# Altium schematic symbol library Discrete.SchLib: 46 symbols
Pins are listed as number, name and electrical type; pins without a type are passive.

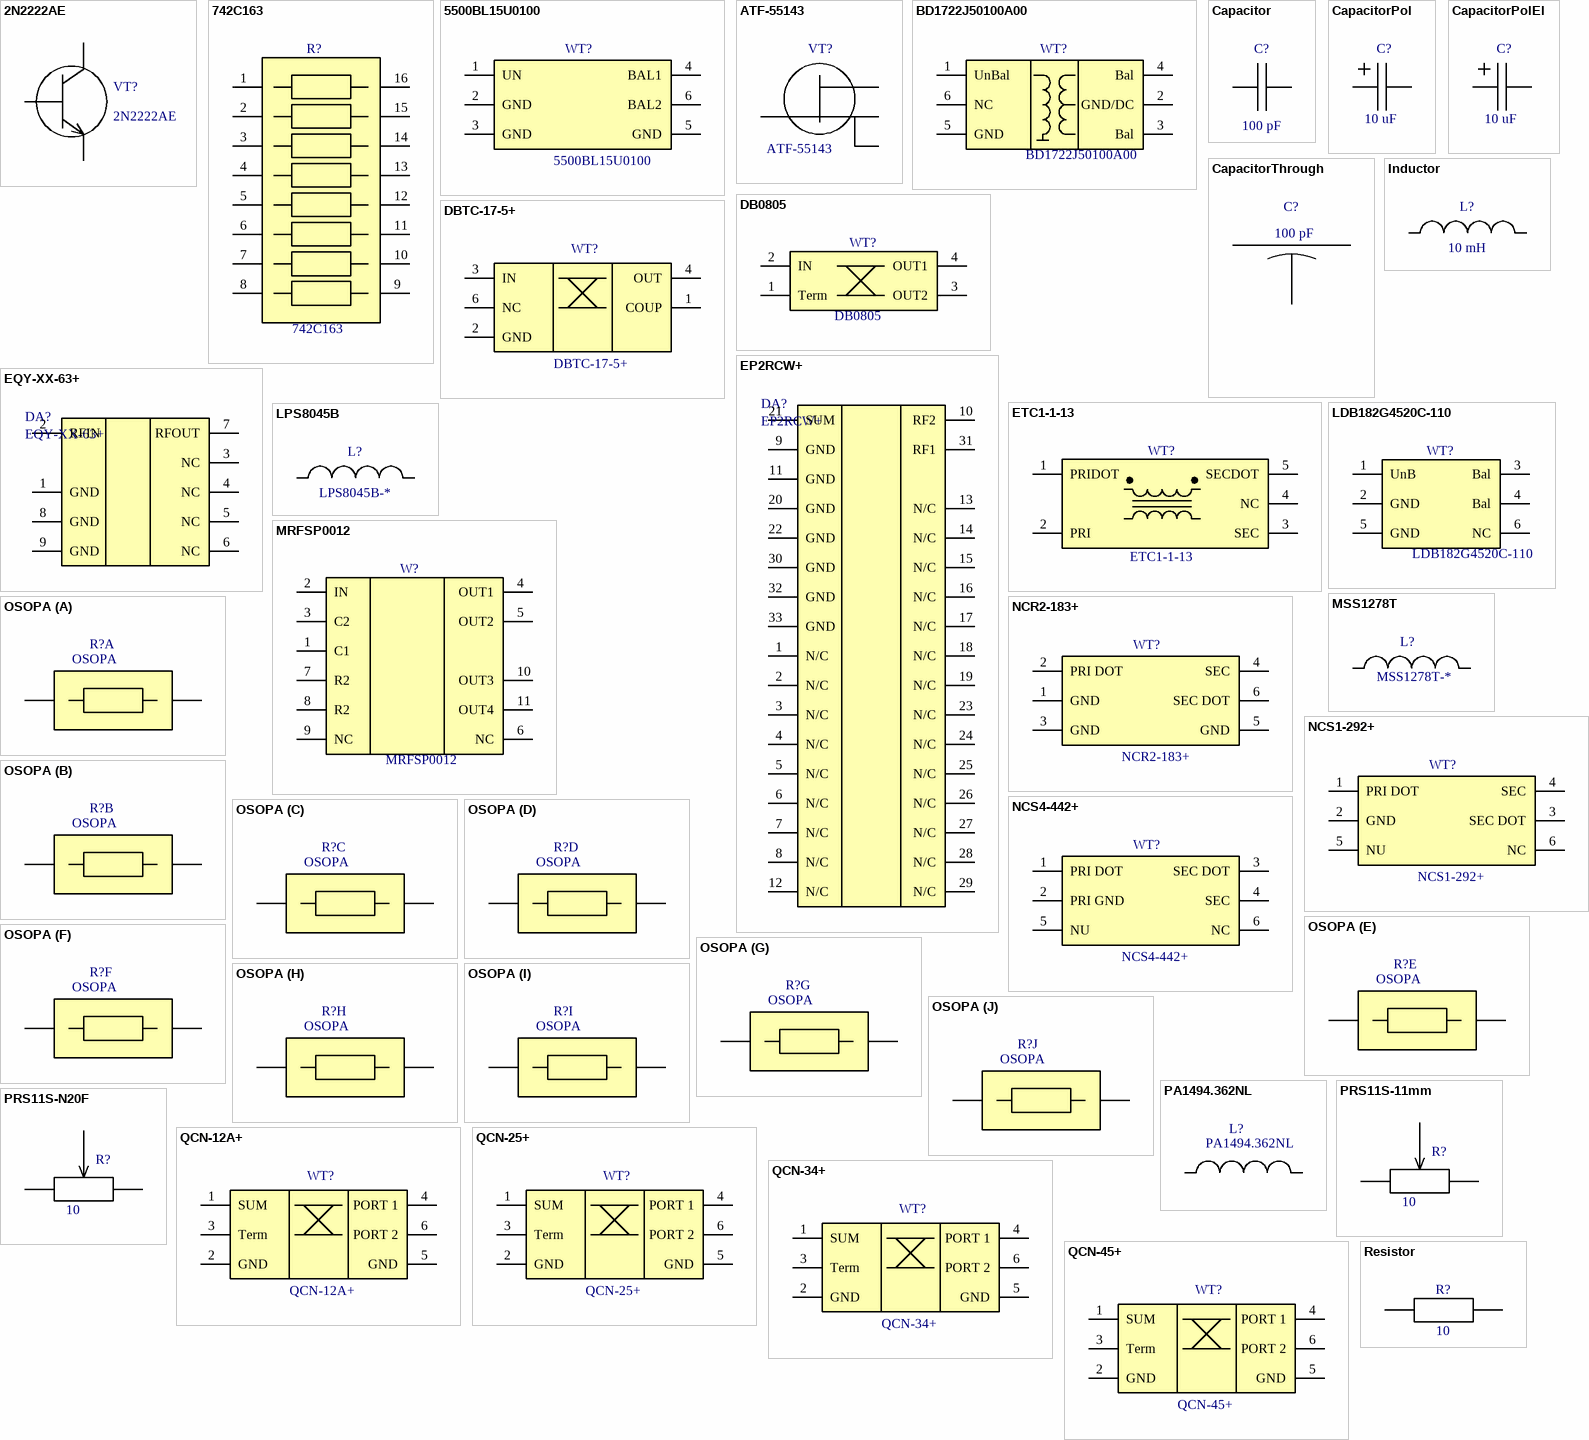
[diagram p0: symbols 2N2222AE to Resistor]

## 2N2222AE
designator VT?
NPN Transistor, General Purpose Transistor; PartNumber: 2N2222AE; Manufacturer: *
footprint TRXSOFL3P50_160X160X80L40X26 (Transistor, Small Outline Flat Lead (SOFL), 0.50 mm pitch; 3 pin, 1.60 mm L X 0.825 mm W X 0.80 mm H body)
pins: 1 B "base", 2 E "emitter", 3 C "collector"

## 742C163
designator R?
Chip Resistor Array 0603 X 8 Isolated; PartNumber: 742C163; Value: *; Tolerance: *; Power: *; DCV: *; Manufacturer: *
footprint RESCAV16P80_640X160X70L30X50N (Chip Array, 2 Side Concave, 0.80 mm pitch; 16 pin, 6.40 mm L X 1.60 mm W X 0.70 mm H body)
pins: 1, 2, 3, 4, 5, 6, 7, 8, 9, 10, 11, 12, 13, 14, 15, 16

## 5500BL15U0100
designator WT?
UWB Balun (3 - 8 GHz); PartNumber: 5500BL15U0100; Manufacturer: *
footprint ICCAF6P65_200X125X105L27X30N (Chip Array, 2 Side Flat, 0.65 mm pitch; 6 pin, 2.00 mm L X 1.25 mm W X 1.05 mm H body)
pins: 1 UN, 2 GND, 3 GND, 4 BAL1, 5 GND, 6 BAL2

## ATF-55143
designator VT?
Low Noise PHEMT w/t dbl source; PartNumber: ATF-55143; Manufacturer: *
footprint SOT343-4RP130_210X120L28X27N (Small Outline Transistor (SOT143), 1.30 mm pitch; 4 pin, 2.05 mm L X 1.25 mm W X 1.20 mm H body (w/reversed pins))
pins: 1 S1, 2 D, 3 S2, 4 G

## BD1722J50100A00
designator WT?
Ultra Low Profile 0805 Balun 50 to 100 Balanced; PartNumber: BD1722J50100A00; Manufacturer: *
footprint PSON6P65_200X125X75L22X30N (Pullback Small Outline No-Lead (PSON), 0.65 mm pitch; 6 pin, 2.00 mm L X 1.25 mm W X 0.75 mm H body)
pins: 1 UnBal, 2 GND/DC, 3 Bal, 4 Bal, 5 GND, 6 NC

## Capacitor
designator C?, comment 100 pF
Capacitor, generic; Value: 100 pF; PartNumber: *; Tolerance: *; VDC: *; Dielectric: *; Manufacturer: *; Package: 0402
footprint CAPC100X50X55L20N (Capacitor, Chip; 1.00 mm L X 0.50 mm W X 0.55 mm H body)
footprint CAPC160X80X90L30N (Capacitor, Chip; 1.60 mm L X 0.80 mm W X 0.90 mm H body)
footprint CAPC200X125X95L50N (Capacitor, Chip; 2.00 mm L X 1.25 mm W X 0.95 mm H body)
footprint CAPC320X160X180L20N (Capacitor, Chip; 3.20 mm L X 1.60 mm W X 1.80 mm H body)
footprint CAPC320X250X280L20N (Capacitor, Chip; 3.20 mm L X 2.50 mm W X 2.80 mm H body)
footprint CAPC450X320X360L20N (Capacitor, Chip; 4.50 mm L X 3.20 mm W X 3.60 mm H body)
footprint CAPC570X500X310L20N (Capacitor, Chip; 5.70 mm L X 5.00 mm W X 3.10 mm H body)
pins: 1, 2

## CapacitorPol
designator C?, comment 10 uF
Capacitor, Pol, generic; Value: 10 uF; PartNumber: *; Tolerance: *; VDC: *; Manufacturer: *; Package: 1206; ESR: *
footprint CAPPM320X160X180L80X120N (Capacitor, Polarized, Molded Body; 2.60 mm L X 1.60 mm W X 1.80 mm H body)
footprint CAPPM350X280X210L80X220N (Capacitor, Polarized, Molded Body; 2.90 mm L X 2.80 mm W X 2.10 mm H body)
pins: 1, 2

## CapacitorPolEl
designator C?, comment 10 uF
Capacitor, Pol, El, generic; Value: 10 uF; PartNumber: *; Tolerance: *; VDC: *; Manufacturer: *; Package: *
footprint CAPAE430X600D510L205X65N (Capacitor, Aluminum Electrolytic; 4.30 mm L X 4.30 mm W X 6.00 mm H body)
footprint CAPAE530X600D590L220X65N (Capacitor, Aluminum Electrolytic; 5.30 mm L X 5.30 mm W X 6.00 mm H body)
footprint CAPAE840X680D840L305X65N (Capacitor, Aluminum Electrolytic; 8.40 mm L X 8.40 mm W X 6.80 mm H body)
footprint CAPAE1030X1050D1200L350X90N (Capacitor, Aluminum Electrolytic; 10.30 mm L X 10.30 mm W X 10.50 mm H body)
pins: 1, 2

## CapacitorThrough
designator C?, comment 100 pF
Capacitor, through, 3-terminal; Value: 100 pF; PartNumber: *; Tolerance: *; VDC: *; Dielectric: *; Manufacturer: *; Package: 0402
footprint CAPCAF4P0_100X50X50L15X35N (Chip Array, 4 Side Flat, 0.00 mm pitch; rect., 1 pin X 1 pin, 1.00 mm L X 0.50 mm W X 0.50 mm H body)
footprint CAPCAF4P0_120X90X80L20X50N (Chip Array, 4 Side Flat, 0.00 mm pitch; rect., 1 pin X 1 pin, 1.20 mm L X 0.90 mm W X 0.80 mm H body)
footprint CAPCAF4P0_160X80X70L20X40N (Chip Array, 4 Side Flat, 0.00 mm pitch; rect., 1 pin X 1 pin, 1.60 mm L X 0.80 mm W X 0.70 mm H body)
footprint CAPCAF4P0_200X125X95L25X60N (Chip Array, 4 Side Flat, 0.00 mm pitch; rect., 1 pin X 1 pin, 2.00 mm L X 1.25 mm W X 0.95 mm H body)
footprint CAPCAF4P0_320X160X150L30X110N (Chip Array, 4 Side Flat, 0.00 mm pitch; rect., 1 pin X 1 pin, 3.20 mm L X 1.60 mm W X 1.50 mm H body)
footprint CAPCAF4P0_450X160X120L35X150N (Chip Array, 4 Side Flat, 0.00 mm pitch; rect., 1 pin X 1 pin, 4.50 mm L X 1.60 mm W X 1.20 mm H body)
pins: 1, 2, 3

## DB0805
designator WT?
Thin-Film Directional Coupler 3dB 90°; PartNumber: DB0805; Manufacturer: *
footprint AVXRF DB0805 (AVX RF case DB0805)
pins: 1 Term, 2 IN, 3 OUT2, 4 OUT1

## DBTC-17-5+
designator WT?
Directional Coupler 50Ω, 17dB coupling, 50 to 2000 MHz; PartNumber: DBTC-17-5+; Manufacturer: *
footprint AT790-1 (Mini-Circuirts case AT790-1)
pins: 1 COUP, 2 GND, 3 IN, 4 OUT, 6 NC

## EP2RCW+
designator DA?
2 Ways MMIC Power Splitter, DC - 8000 MHz, 50Ω; Manufacturer: Mini-Circuits; PartNumber: EP2RCW+; ComponentLink1Description: Mini-Circuits page; ComponentLink1URL: https://www.minicircuits.com/WebStore/dashboard.html?model=EP2RCW%2B
footprint QFN33P50_500X500X100L40X24T380N (Quad Flat No-Lead (QFN with Tab), 0.50 mm pitch; square, 8 pin X 8 pin, 5.00 mm L X 5.00 mm W X 1.00 mm H body)
pins: 1 N/C, 2 N/C, 3 N/C, 4 N/C, 5 N/C, 6 N/C, 7 N/C, 8 N/C, 9 GND, 10 RF2, 11 GND, 12 N/C, 13 N/C, 14 N/C, 15 N/C, 16 N/C, 17 N/C, 18 N/C, 19 N/C, 20 GND, 21 SUM, 22 GND, 23 N/C, 24 N/C, 25 N/C, 26 N/C, 27 N/C, 28 N/C, 29 N/C, 30 GND, 31 RF1, 32 GND, 33 GND

## EQY-XX-63+
designator DA?
Gain Equalizers, 50Ω, DC to 6 GHz, Slope 0,1,2,3,4,5,6,8&10 dB; Manufactorer: Mini-Circuits; PartNumber: EQY-XX-63+; ComponentLink1Description: Mini-Circuits equalizers page; ComponentLink1URL: https://www.minicircuits.com/WebStore/equalizers.html#
footprint SON9P50_200X200X100L35X23T120X60N (Small Outline No-Lead (SON with Tab), 0.50 mm pitch; 8 pin, 2.00 mm L X 2.00 mm W X 1.00 mm H body)
pins: 1 GND, 2 RFIN, 3 NC, 4 NC, 5 NC, 6 NC, 7 RFOUT, 8 GND, 9 GND

## ETC1-1-13
designator WT?
E-Series Transformer, RF 1:1 Transmission Line 4.5 -3000 MHz; Manufacturer: MACOM; PartNumber: ETC1-1-13; ComponentLink1Description: Product Page; ComponentLink1URL: https://www.macom.com/products/product-detail/ETC1-1-13
footprint ETC1-1-13 (MACOM ETC1-1-13)
pins: 1 PRIDOT, 2 PRI, 3 SEC, 4 NC, 5 SECDOT

## Inductor
designator L?, comment 10 mH
Inductor, generic; Value: 10 mH; PartNumber: *; Tolerance: *; DCR: *; IRMS: *; ISAT: *; SRF: *; Q: *; Manufacturer: *; Package: 0603
footprint INDC160X80X100L30N (Inductor, Chip; 1.60 mm L X 0.80 mm W X 1.00 mm H body)
footprint INDC200X120X140L50N (Inductor, Chip; 2.00 mm L X 1.20 mm W X 1.40 mm H body)
footprint INDC320X160X130L50N (Inductor, Chip; 3.20 mm L X 1.60 mm W X 1.30 mm H body)
footprint INDC100X50X55L20N (Inductor, Chip; 1.00 mm L X 0.50 mm W X 0.55 mm H body)
pins: 1, 2

## LDB182G4520C-110
designator WT?
Chip Multilayer Hybrid Balun 2450.0 ±50.0MHz 50-200 Ohm; PartNumber: LDB182G4520C-110; Manufacturer: *
footprint ICCAF6P50_160X80X70L15X20N (Chip Array, 2 Side Flat, 0.50 mm pitch; 6 pin, 1.60 mm L X 0.80 mm W X 0.70 mm H body)
pins: 1 UnB, 2 GND, 3 Bal, 4 Bal, 5 GND, 6 NC

## LPS8045B
designator L?, comment LPS8045B-*
Shielded Power Inductor; Value: 10 uH; PartNumber: LPS8045B-*; DCR: *; SRF: *; ISAT: *
footprint COILCRAFT_LPS8045B (Coilcraft LPS8045B)
pins: 1, 2

## MRFSP0012
designator W?
4-Way Splitter 5 to 1002 MHz; PartNumber: MRFSP0012; Manufacturer: *
footprint MRFSP0012 (MRFSP0012 Packadge S25)
pins: 1 C1, 2 IN, 3 C2, 4 OUT1, 5 OUT2, 6 NC, 7 R2, 8 R2, 9 NC, 10 OUT3, 11 OUT4

## MSS1278T
designator L?, comment MSS1278T-*
Colicraft SMT Power Inductors; PartNumber: MSS1278T-*; Value: *; DCR: *; SRF: *; ISAT: *
footprint MSS1278T (Coilcraft MSS1278T Series)
pins: 1, 2

## NCR2-183+
designator WT?
RF Transformer; PartNumber: NCR2-183+; Manufacturer: *
footprint NF1846-1 (Mini-Circuits case NF1846-1)
pins: 1 GND, 2 PRI DOT, 3 GND, 4 SEC, 5 GND, 6 SEC DOT

## NCS1-292+
designator WT?
RF Transformer; PartNumber: NCS1-292+; Manufacturer: *
footprint GE0805C-1 (Mini-Circuits case GE0805C-1)
pins: 1 PRI DOT, 2 GND, 3 SEC DOT, 4 SEC, 5 NU, 6 NC

## NCS4-442+
designator WT?
RF Transformer 50Ω 3300 to 4200 MHz 1:4 Ratio; PartNumber: NCS4-442+; Manufacturer: *
footprint GE0805C-1 (Mini-Circuits case GE0805C-1)
pins: 1 PRI DOT, 2 PRI GND, 3 SEC DOT, 4 SEC, 5 NU, 6 NC

## OSOPA
designator R?
Dual-In-Line Thin Film Resistor,  Surface Mount Network, Isolated; PartNumber: OSOPA; Value: *; Tolerance: *; Power: *; DCV: *; Manufacturer: *
footprint SOP20P63_866X602X173L64X25N (Small Outline Pkg (SOP), 0.635 mm pitch; 20 pin, 8.66 mm L X 3.91 mm W X 1.73 mm H body)
part A pins: 1, 20
part B pins: 2, 19
part C pins: 3, 18
part D pins: 4, 17
part E pins: 5, 16
part F pins: 6, 15
part G pins: 7, 14
part H pins: 8, 13
part I pins: 9, 12
part J pins: 10, 11

## PA1494.362NL
designator L?
SMT POWER INDUCTOR Planar - PA1X9XNL Series; Value: 3.3uH; PartNumber: PA1494.362NL; Tolerance: *; DCR: *; IRMS: *; ISAT: *; SRF: *; Q: *; Manufacturer: *
footprint PA1494 (Pulse Planar inductor)
pins: 1, 2

## PRS11S-11mm
designator R?, comment 10
11 mm SMD Potentiometer; PartNumber: PRS11S-*; Value: 10; Manufacturer: *
footprint PRS11S-11mm (Bourns 11 mm SMD Potentiometer with Mounting Holes)
pins: 1, 2, 3

## PRS11S-N20F
designator R?, comment 10
PRS11S - 11 mm SMD Potentiometer; PartNumber: PRS11S-N20F; Value: 10; Manufacturer: *
footprint PRS11S (PRS11S - 11 mm SMD Potentiometer)
pins: 1, 2, 3

## QCN-12A+
designator WT?
Power Splitter/Combiner; PartNumber: QCN-12A+; Manufacturer: *
footprint FV1206-1 (Mini-Circuits case FV1206-1)
pins: 1 SUM, 2 GND, 3 Term, 4 PORT 1, 5 GND, 6 PORT 2

## QCN-25+
designator WT?
Power Splitter/Combiner; PartNumber: QCN-25+; Manufacturer: *
footprint FV1206-1 (Mini-Circuits case FV1206-1)
pins: 1 SUM, 2 GND, 3 Term, 4 PORT 1, 5 GND, 6 PORT 2

## QCN-34+
designator WT?
Power Splitter/Combiner; PartNumber: QCN-34+; Manufacturer: *
footprint FV1206-1 (Mini-Circuits case FV1206-1)
pins: 1 SUM, 2 GND, 3 Term, 4 PORT 1, 5 GND, 6 PORT 2

## QCN-45+
designator WT?
Power Splitter/Combiner; PartNumber: QCN-45+; Manufacturer: *
footprint FV1206-1 (Mini-Circuits case FV1206-1)
pins: 1 SUM, 2 GND, 3 Term, 4 PORT 1, 5 GND, 6 PORT 2

## Resistor
designator R?, comment 10
Resistor, generic; Value: 10; PartNumber: *; Tolerance: *; Power: *; DCV: *; Manufacturer: *; Package: 0402
footprint RESC100X50X40L25N (Resistor, Chip; 1.00 mm L X 0.50 mm W X 0.40 mm H body)
footprint RESC160X80X60L30N (Resistor, Chip; 1.60 mm L X 0.80 mm W X 0.60 mm H body)
footprint RESC200X125X65L40N (Resistor, Chip; 2.00 mm L X 1.25 mm W X 0.65 mm H body)
footprint RESC160X320X60L45N (Resistor, Chip; 1.60 mm L X 3.20 mm W X 0.60 mm H body)
footprint RESC310X160X65L40N (Resistor, Chip; 3.10 mm L X 1.60 mm W X 0.65 mm H body)
footprint RESC310X260X65L50N (Resistor, Chip; 3.10 mm L X 2.60 mm W X 0.65 mm H body)
footprint RESC310X460X65L40N (Resistor, Chip; 3.10 mm L X 4.60 mm W X 0.65 mm H body)
footprint RESC500X250X65L50N (Resistor, Chip; 5.00 mm L X 2.50 mm W X 0.65 mm H body)
footprint RESC635X310X65L50N (Resistor, Chip; 6.35 mm L X 3.10 mm W X 0.65 mm H body)
pins: 1, 2

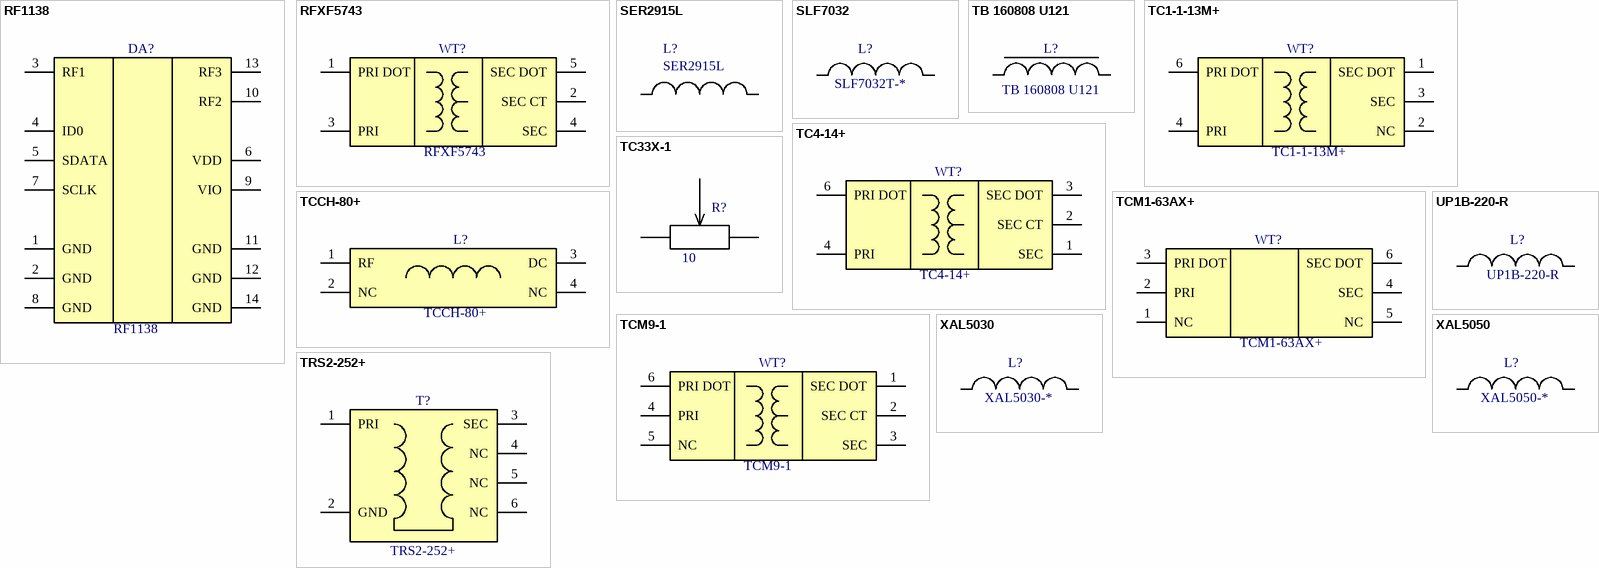
[diagram p1: symbols RF1138 to XAL5050]

## RF1138
designator DA?
5 bit Tunable Capacitor with Switch; PartNumber: RF1138; Manufacturer: *
footprint BGA14CP40_4X5_158X198X60B26N (Ball Grid Array (BGA), 0.40 mm pitch, rect.; 14 pin, 1.58 mm L X 1.98 mm W X 0.602 mm H body)
pins: 1 GND, 2 GND, 3 RF1, 4 ID0, 5 SDATA, 6 VDD, 7 SCLK, 8 GND, 9 VIO, 10 RF2, 11 GND, 12 GND, 13 RF3, 14 GND

## RFXF5743
designator WT?
1:3 SMT TRANSFORMER 75 Ohm; Manufacturer: MiniRF; PartNumber: RFXF5743; ComponentLink1Description: Manufacturer Link; ComponentLink1URL: http://www.minirf.com/pdf/transformers/RFXF5743DS.pdf
footprint RFXF5743 (Mini RF RFXF5743 Case S20)
pins: 1 PRI DOT, 2 SEC CT, 3 PRI, 4 SEC, 5 SEC DOT

## SER2915L
designator L?
Shielded Power Inductor; PartNumber: SER2915L; Value: *; DCR: *
footprint CoilCraft_SER2915L (CoilCraft Power Inductor)
pins: 1, 2

## SLF7032
designator L?, comment SLF7032T-*
Inductors for power circuits Wound ferrite SLF series; Tolerance: 20%; PartNumber: SLF7032T-*; Value: *; DCR: *; ISAT: *; ComponentLink1Description: DataSheet; ComponentLink1URL: https://product.tdk.com/info/en/catalog/datasheets/inductor_commercial_power_slf7032_en.pdf
footprint SLF7032 (TDK SLF7032 type)
pins: 1, 2

## TB 160808 U121
designator L?
Multilayer Ferrite Chip Bead; Value: 0.1 Ohm/800 mA; PartNumber: TB 160808 U121; DCR: *; ISAT: *; Manufacturer: *
footprint BEADC160X80X100L30N (Ferrite Bead, Chip; 1.60 mm L X 0.80 mm W X 1.00 mm H body)
pins: 1, 2

## TC1-1-13M+
designator WT?
RF Transformer 50Ω 4.5 to 3000 MHz; PartNumber: TC1-1-13M+; Manufacturer: *
footprint AT224-1A (Mini-Circuirts case AT224-1A)
pins: 1 SEC DOT, 2 NC, 3 SEC, 4 PRI, 6 PRI DOT

## TC4-14+
designator WT?
RF Transformer 50Ω 200 to 1400 MHz; PartNumber: TC4-14+; Manufacturer: *
footprint AT224-1 (Mini-Circuirts case AT224-1)
pins: 1 SEC, 2 SEC CT, 3 SEC DOT, 4 PRI, 6 PRI DOT

## TC33X-1
designator R?, comment 10
TC33 - 3 mm SMD Trimpot® Trimming Potentiometer; PartNumber: TC33X-1; Value: 10; Manufacturer: *
footprint bourns_TC33X-1 (Trimmer Potenciometer, Bourns,  3.6 mm X 3.8 mm X 1.2 mm)
pins: 1, 2, 3

## TCCH-80+
designator L?
RF Choke 50Ω 50 to 8200 MHz; PartNumber: TCCH-80+; Manufacturer: *
footprint GU1604 (Mini-Circuits case GU1604)
pins: 1 RF, 2 NC, 3 DC, 4 NC

## TCM1-63AX+
designator WT?
RF Transformer 10 to 6000 MHz; PartNumber: TCM1-63AX+; Manufacturer: *
footprint DB1627 (Mini-Circuirts case DB1627)
pins: 1 NC, 2 PRI, 3 PRI DOT, 4 SEC, 5 NC, 6 SEC DOT

## TCM9-1
designator WT?
RF Transformer 50Ω 2 to 280 MHz; PartNumber: TCM9-1; Manufacturer: *
footprint DB714 (Mini-Circuirts case DB714)
pins: 1 SEC DOT, 2 SEC CT, 3 SEC, 4 PRI, 5 NC, 6 PRI DOT

## TRS2-252+
designator T?
RF Transformer 100 to 50Ω 4 to 2500 MHz; PartNumber: TRS2-252+; Manufacturer: *
footprint AT577 (Open style, ceramic base)
pins: 1 PRI, 2 GND, 3 SEC, 4 NC, 5 NC, 6 NC

## UP1B-220-R
designator L?
Power Inductors; Value: 22 uHn; PartNumber: UP1B-220-R; Manufacturer: *
footprint UP1B (UP1B CASE Coiltronics)
pins: 1, 2

## XAL5030
designator L?, comment XAL5030-*
Colicraft Shielded Power Inductors; PartNumber: XAL5030-*; Value: *; DCR: *; SRF: *; ISAT: *; ComponentLink1Description: Manufacturer link; ComponentLink1URL: https://www.coilcraft.com/xal50xx.cfm
footprint XAL5030 (Coilcraft XAL5030- series)
pins: 1, 2

## XAL5050
designator L?, comment XAL5050-*
Colicraft Shielded Power Inductors; PartNumber: XAL5050-*; Value: *; DCR: *; SRF: *; ISAT: *; ComponentLink1Description: Manufacturer link; ComponentLink1URL: https://www.coilcraft.com/xal50xx.cfm
footprint XAL5050 (Coilcraft XAL5050- series)
pins: 1, 2